# Altium schematic symbol library Z.SchLib: 3 symbols
Pins are listed as number, name and electrical type; pins without a type are passive.

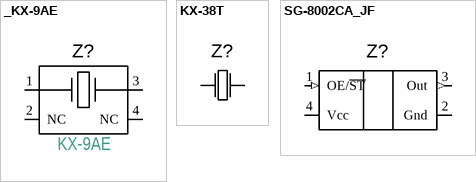
[diagram p0: symbols _KX-9AE to SG-8002CA_JF]

## _KX-9AE
designator Z?
pins: 1 X1, 2 NC, 3 X2, 4 NC
text: KX-9AE

## KX-38T
designator Z?
pins: 1 X1, 2 X2

## SG-8002CA_JF
designator Z?
pins: 1 OE/~{ST} (in), 2 Gnd (power), 3 Out (out), 4 Vcc (power)